# Altium schematic symbol library clock.SchLib: 36 symbols
Pins are listed as number, name and electrical type; pins without a type are passive.

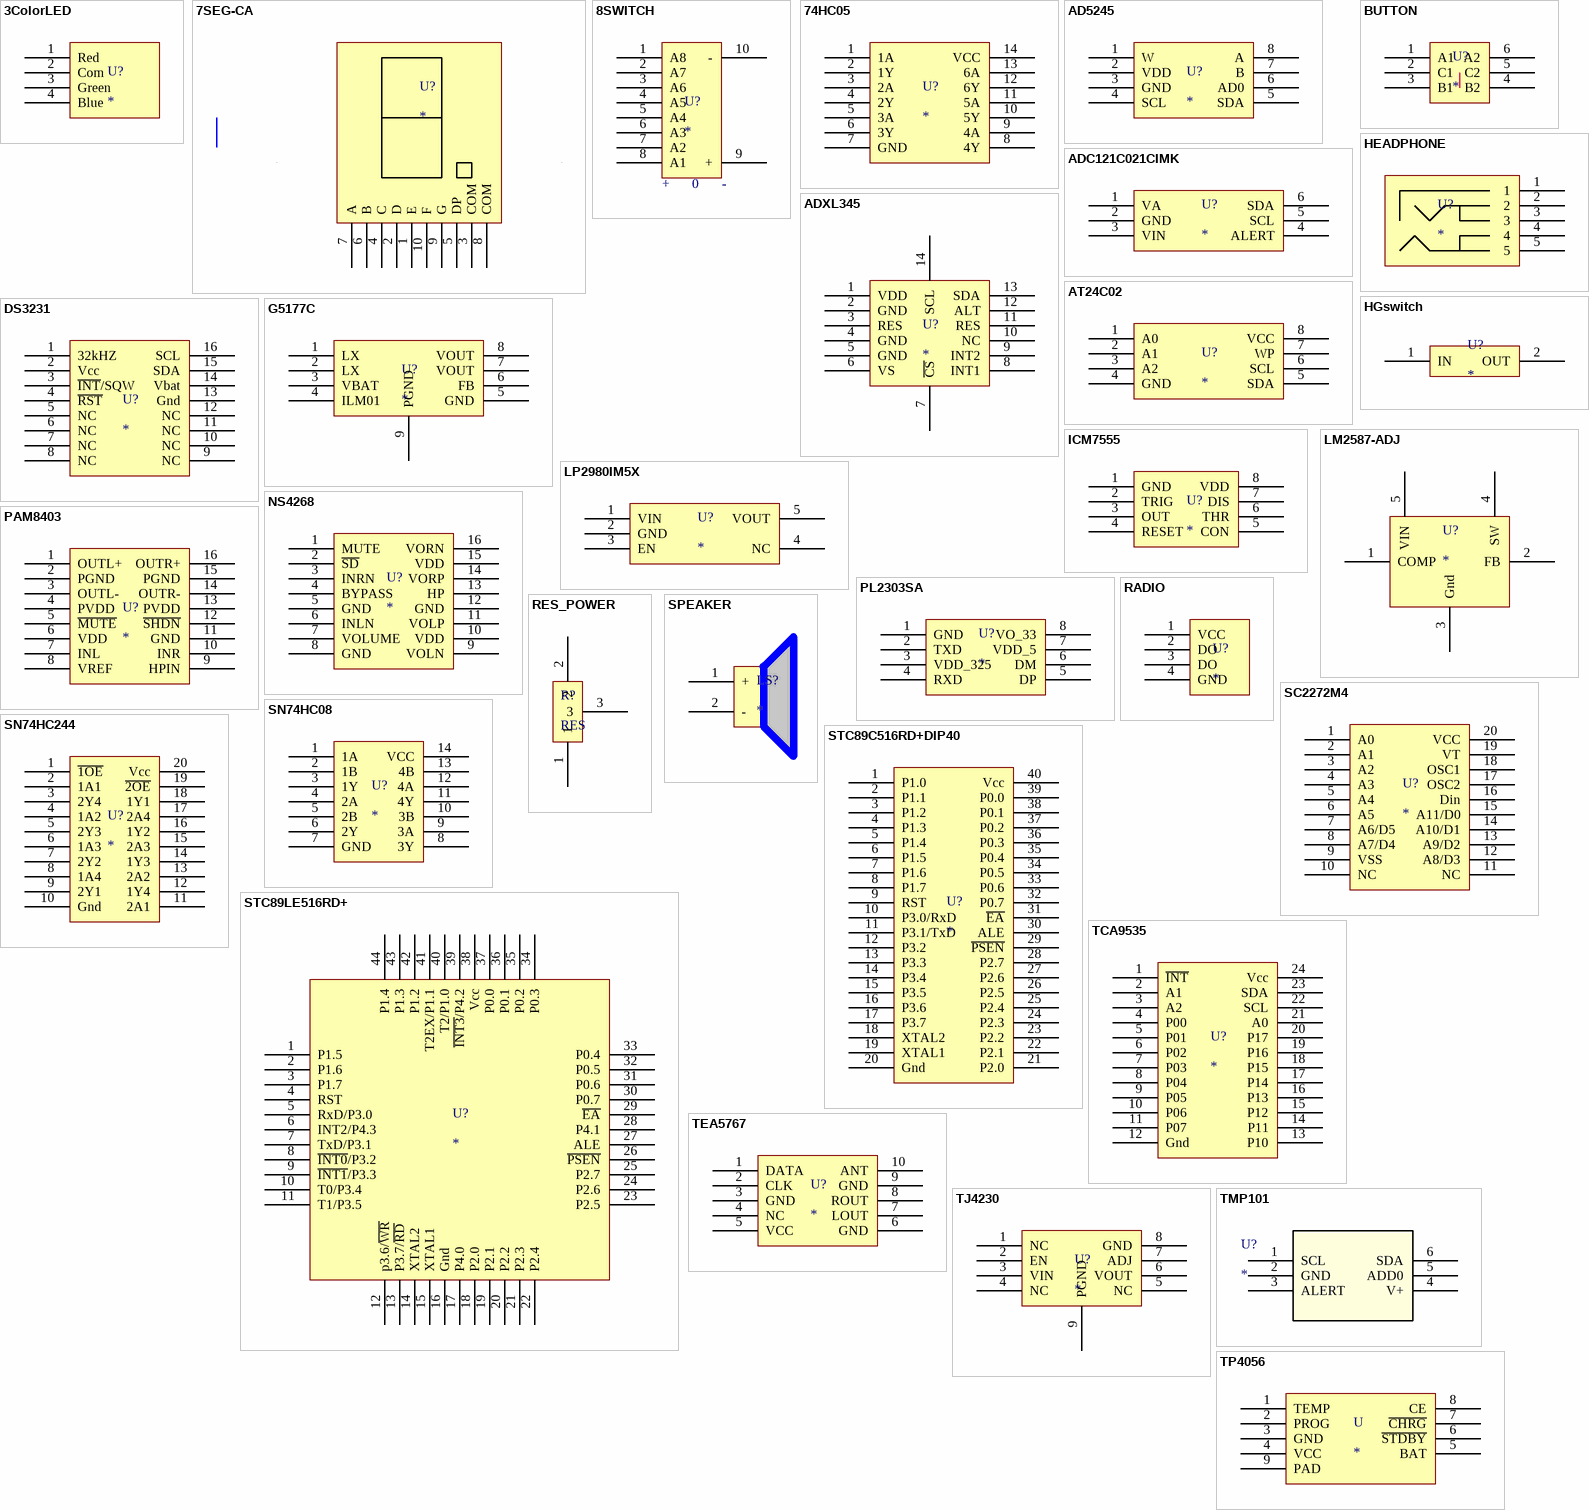
[diagram p0: symbols 3ColorLED to TP4056]

## 3ColorLED
designator U?
footprint 3COLOR-LED
pins: 1 Red, 2 Com, 3 Green, 4 Blue

## 7SEG-CA
designator U?
footprint 8SEC-CA-28
pins: 1 E, 2 D, 3 COM, 4 C, 5 DP, 6 B, 7 A, 8 COM, 9 G, 10 F

## 8SWITCH
designator U?
footprint DSDT08LSGET
pins: 1 A8, 2 A7, 3 A6, 4 A5, 5 A4, 6 A3, 7 A2, 8 A1, 9 +, 10 -
text: 0

## 74HC05
designator U?
footprint TSSOP14 (Shrink Small Outline; 16 Leads; Body Width 4.4 mm; Pitch 0.65 mm)
pins: 1 1A, 2 1Y, 3 2A, 4 2Y, 5 3A, 6 3Y, 7 GND, 8 4Y, 9 4A, 10 5Y, 11 5A, 12 6Y, 13 6A, 14 VCC

## AD5245
designator U?
footprint SOT23-8 (SSOP; 8 Leads; Body Width 1.6 mm; Pitch 0.65 mm)
pins: 1 W, 2 VDD, 3 GND, 4 SCL, 5 SDA, 6 AD0, 7 B, 8 A

## ADC121C021CIMK
designator U?
footprint DDC-6
pins: 1 VA, 2 GND, 3 VIN, 4 ALERT, 5 SCL, 6 SDA

## ADXL345
designator U?
footprint ALX
pins: 1 VDD, 2 GND, 3 RES, 4 GND, 5 GND, 6 VS, 7 ~{CS}, 8 INT1, 9 INT2, 10 NC, 11 RES, 12 ALT, 13 SDA, 14 SCL

## AT24C02
designator U?
footprint SOP8
pins: 1 A0, 2 A1, 3 A2, 4 GND (power), 5 SDA, 6 SCL, 7 WP, 8 VCC

## BUTTON
designator U?
footprint HDR2X3
pins: 1 A1, 2 C1, 3 B1, 4 B2, 5 C2, 6 A2

## DS3231
designator U?
footprint WSO16_M (16-Pin Small Outline Integrated Circuit 1.27 mm Pitch, IPC Low Density)
pins: 1 32kHZ, 2 Vcc, 3 ~{INT}/SQW, 4 ~{RST}, 5 NC, 6 NC, 7 NC, 8 NC, 9 NC, 10 NC, 11 NC, 12 NC, 13 Gnd, 14 Vbat, 15 SDA, 16 SCL

## G5177C
designator U?
footprint SOP8-PAD
pins: 1 LX, 2 LX, 3 VBAT, 4 ILM01, 5 GND, 6 FB, 7 VOUT, 8 VOUT, 9 PGND

## HEADPHONE
designator U?
footprint HEADPHONE
pins: 1, 2, 3, 4, 5

## HGswitch
designator U?
footprint HG-V
footprint HG-H
pins: 1 IN, 2 OUT

## ICM7555
designator U?
footprint SOP8
pins: 1 GND, 2 TRIG, 3 OUT, 4 RESET, 5 CON, 6 THR, 7 DIS, 8 VDD

## LM2587-ADJ
designator U?
pins: 1 COMP, 2 FB, 3 Gnd, 4 SW, 5 VIN

## LP2980IM5X
designator U?
footprint DDC-5
pins: 1 VIN, 2 GND, 3 EN, 4 NC, 5 VOUT

## NS4268
designator U?
footprint SOP16
pins: 1 MUTE, 2 ~{SD}, 3 INRN, 4 BYPASS, 5 GND, 6 INLN, 7 VOLUME, 8 GND, 9 VOLN, 10 VDD, 11 VOLP, 12 GND, 13 HP, 14 VORP, 15 VDD, 16 VORN

## PAM8403
designator U?
footprint SOP16
pins: 1 OUTL+, 2 PGND, 3 OUTL-, 4 PVDD, 5 ~{MUTE}, 6 VDD, 7 INL, 8 VREF, 9 HPIN, 10 INR, 11 GND, 12 ~{SHDN}, 13 PVDD, 14 OUTR-, 15 PGND, 16 OUTR+

## PL2303SA
designator U?
footprint SOP8
pins: 1 GND, 2 TXD, 3 VDD_325, 4 RXD, 5 DP, 6 DM, 7 VDD_5, 8 VO_33

## RADIO
designator U?
footprint RADIO (Connector; Header; 4 Position)
pins: 1 VCC, 2 DO, 3 DO, 4 GND

## RES_POWER
designator R?, comment RES
footprint RES_POWER (D2-PAK, 4-Leads, Body 8.8x10.4mm, Pitch 2.54mm, Lead Span 15.1mm, IPC Low Density)
pins: 1, 2, 3

## SC2272M4
designator U?
footprint SOP20
pins: 1 A0, 2 A1, 3 A2, 4 A3, 5 A4, 6 A5, 7 A6/D5, 8 A7/D4, 9 VSS, 10 NC, 11 NC, 12 A8/D3, 13 A9/D2, 14 A10/D1, 15 A11/D0, 16 Din, 17 OSC2, 18 OSC1, 19 VT, 20 VCC

## SN74HC08
designator U?
footprint TSSOP14 (Shrink Small Outline; 16 Leads; Body Width 4.4 mm; Pitch 0.65 mm)
pins: 1 1A, 2 1B, 3 1Y, 4 2A, 5 2B, 6 2Y, 7 GND, 8 3Y, 9 3A, 10 3B, 11 4Y, 12 4A, 13 4B, 14 VCC

## SN74HC244
designator U?
footprint TSSOP20 (Shrink Small Outline; 20 Leads; Body Width 4.4 mm; Pitch 0.65 mm)
pins: 1 ~{1OE}, 2 1A1, 3 2Y4, 4 1A2, 5 2Y3, 6 1A3, 7 2Y2, 8 1A4, 9 2Y1, 10 Gnd, 11 2A1, 12 1Y4, 13 2A2, 14 1Y3, 15 2A3, 16 1Y2, 17 2A4, 18 1Y1, 19 ~{2OE}, 20 Vcc

## SPEAKER
designator LS?
footprint SPEAKER
pins: 1 +, 2 -

## STC89C516RD+DIP40
designator U?
pins: 1 P1.0, 2 P1.1, 3 P1.2, 4 P1.3, 5 P1.4, 6 P1.5, 7 P1.6, 8 P1.7, 9 RST, 10 P3.0/RxD, 11 P3.1/TxD, 12 P3.2, 13 P3.3, 14 P3.4, 15 P3.5, 16 P3.6, 17 P3.7, 18 XTAL2, 19 XTAL1, 20 Gnd, 21 P2.0, 22 P2.1, 23 P2.2, 24 P2.3, 25 P2.4, 26 P2.5, 27 P2.6, 28 P2.7, 29 ~{PSEN}, 30 ALE, 31 ~{EA}, 32 P0.7, 33 P0.6, 34 P0.5, 35 P0.4, 36 P0.3, 37 P0.2, 38 P0.1, 39 P0.0, 40 Vcc

## STC89LE516RD+
designator U?
footprint LQFP44
pins: 1 P1.5, 2 P1.6, 3 P1.7, 4 RST, 5 RxD/P3.0, 6 INT2/P4.3, 7 TxD/P3.1, 8 ~{INT0}/P3.2, 9 ~{INT1}/P3.3, 10 T0/P3.4, 11 T1/P3.5, 12 p3.6/~{WR}, 13 P3.7/~{RD}, 14 XTAL2, 15 XTAL1, 16 Gnd, 17 P4.0, 18 P2.0, 19 P2.1, 20 P2.2, 21 P2.3, 22 P2.4, 23 P2.5, 24 P2.6, 25 P2.7, 26 ~{PSEN}, 27 ALE, 28 P4.1, 29 ~{EA}, 30 P0.7, 31 P0.6, 32 P0.5, 33 P0.4, 34 P0.3, 35 P0.2, 36 P0.1, 37 P0.0, 38 Vcc, 39 ~{INT3}/P4.2, 40 T2/P1.0, 41 T2EX/P1.1, 42 P1.2, 43 P1.3, 44 P1.4

## TCA9535
designator U?
footprint TSSOP24 (Shrink Small Outline; 24 Leads; Body Width 4.4 mm; Pitch 0.65 mm)
pins: 1 ~{INT}, 2 A1, 3 A2, 4 P00, 5 P01, 6 P02, 7 P03, 8 P04, 9 P05, 10 P06, 11 P07, 12 Gnd, 13 P10, 14 P11, 15 P12, 16 P13, 17 P14, 18 P15, 19 P16, 20 P17, 21 A0, 22 SCL, 23 SDA, 24 Vcc

## TEA5767
designator U?
footprint TEA5767
pins: 1 DATA, 2 CLK, 3 GND, 4 NC, 5 VCC, 6 GND, 7 LOUT, 8 ROUT, 9 GND, 10 ANT

## TJ4230
designator U?
footprint SOP8-PAD
pins: 1 NC, 2 EN, 3 VIN, 4 NC, 5 NC, 6 VOUT, 7 ADJ, 8 GND, 9 PGND

## TMP101
designator U?
Imported; Manufacturer_Part_Number: tmp101_dbv_6; GENERIC_PART_NUMBER: TMP101; Vendor: Texas Instruments; PACKAGE_DESIGNATOR: DBV; PIN_COUNT: 6; FAMILY_NAME: TEMPERATURE SENSOR; INDUSTRY_STD_PKG_TYPE: SOT-23; Datasheet URL: http://www.ti.com/lit/gpn/TMP101; Manufacturer: Texas Instruments; RefDes: RefDes; Type: DEV; Value: Value
footprint SOT23-6 (SOT-457/SC-74; 6 Leads; Body 3 x 3 mm, inc. leads (LxW max))
pins: 1 SCL, 2 GND, 3 ALERT, 4 V+, 5 ADD0, 6 SDA

## TP4056
designator U
footprint SOP8-PAD
pins: 1 TEMP, 2 PROG, 3 GND, 4 VCC (power), 5 BAT, 6 ~{STDBY}, 7 ~{CHRG}, 8 CE, 9 PAD

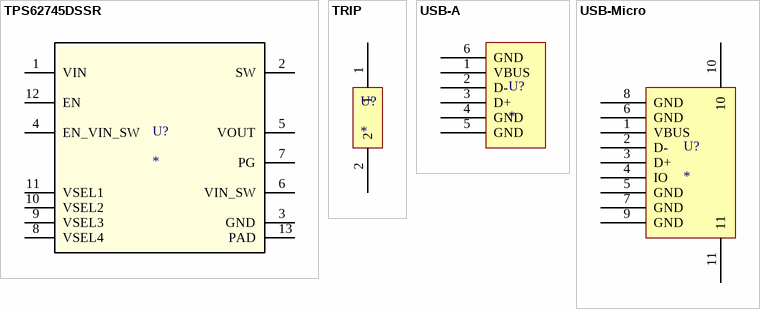
[diagram p1: symbols TPS62745DSSR to USB-Micro]

## TPS62745DSSR
designator U?
Imported; PartNumber: TPS62745DSSR; Alternate PartNumber: TPS62745DSST; Manufacturer: Texas Instruments; CompType: IC; PIN_COUNT: 13; Application_BuildNumber: *; PackageReference: DSS0012A; MountType: SMT; RoHS: Y; RefDes: RefDes; Type: DEV; Value: Value
footprint DSS0012A
pins: 1 VIN, 2 SW, 3 GND, 4 EN_VIN_SW, 5 VOUT, 6 VIN_SW, 7 PG, 8 VSEL4, 9 VSEL3, 10 VSEL2, 11 VSEL1, 12 EN, 13 PAD

## TRIP
designator U?
footprint TRIP
pins: 1, 2

## USB-A
designator U?
footprint USB-A
pins: 1 VBUS, 2 D-, 3 D+, 4 GND, 5 GND, 6 GND

## USB-Micro
designator U?
footprint USB-Micro
pins: 1 VBUS, 2 D-, 3 D+, 4 IO, 5 GND, 6 GND, 7 GND, 8 GND, 9 GND, 10, 11